# Altium footprint library UK_Library_PCB.PcbLib: 52 footprints (part 4 of 4)
Each footprint in its own frame and in the unit in brackets; x right, y up, seen from the top. Pads: shape width x height; smd on the part's side, far side on the other; paste and mask are expansions set on the pad; w line width, h text height; cw(c..) or ccw(c..) is an arc to the next point about the centre after c.
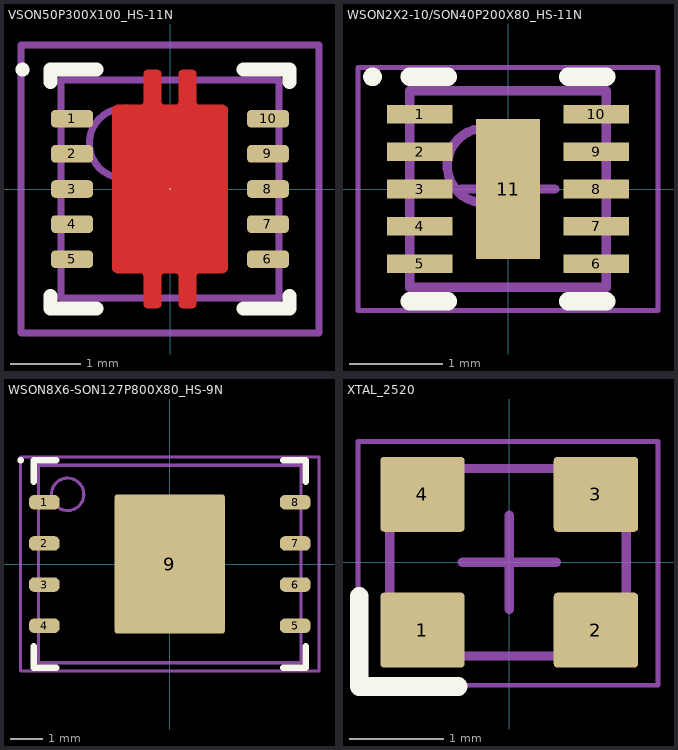
[diagram p3: the footprints below, top view; thin cyan lines are the x and y axes]

## VSON50P300X100_HS-11N [mm] "VSON, 10-Leads, Body 3,00x3,00mm, Pitch 0,50mm, Thermal Pad 2,40x1,49mm, IPC Medium Density"
height 1
pads (11):
  rrect50% 0.6x0.25 smd mask+0.05: 1(-1.395,1) 2(-1.395,0.5) 3(-1.395,0) 4(-1.395,-0.5) 5(-1.395,-1) 6(1.395,-1) 7(1.395,-0.5) 8(1.395,0) 9(1.395,0.5) 10(1.395,1)
  round 0.025 smd mask+0.05: 11(0,0)
Top Layer:
  region: -0.312,-1.7 -0.325,-1.7 -0.348,-1.69 -0.365,-1.673 -0.375,-1.65 -0.375,-1.637 -0.375,-1.25 -0.376,-1.24 -0.384,-1.222 -0.398,-1.208 -0.416,-1.2 -0.426,-1.199 -0.744,-1.199 -0.76,-1.199 -0.79,-1.187 -0.813,-1.164 -0.825,-1.134 -0.825,-1.117 -0.825,1.118 -0.825,1.134 -0.812,1.164 -0.789,1.187 -0.759,1.2 -0.742,1.2 -0.425,1.2 -0.415,1.201 -0.397,1.208 -0.383,1.222 -0.376,1.24 -0.375,1.25 -0.375,1.638 -0.375,1.65 -0.365,1.673 -0.348,1.69 -0.325,1.7 -0.312,1.7 -0.187,1.7 -0.175,1.7 -0.152,1.69 -0.135,1.673 -0.125,1.65 -0.125,1.638 -0.125,1.25 -0.124,1.24 -0.117,1.222 -0.103,1.208 -0.085,1.201 -0.075,1.2 0.075,1.2 0.085,1.201 0.103,1.208 0.117,1.222 0.124,1.24 0.125,1.25 0.125,1.638 0.125,1.65 0.135,1.673 0.152,1.69 0.175,1.7 0.188,1.7 0.313,1.7 0.325,1.7 0.348,1.69 0.365,1.673 0.375,1.65 0.375,1.638 0.375,1.25 0.376,1.24 0.383,1.222 0.397,1.208 0.415,1.201 0.425,1.2 0.743,1.2 0.759,1.2 0.789,1.187 0.812,1.164 0.825,1.134 0.825,1.118 0.825,-1.117 0.825,-1.134 0.812,-1.164 0.789,-1.187 0.759,-1.2 0.743,-1.2 0.425,-1.2 0.415,-1.201 0.397,-1.208 0.383,-1.222 0.376,-1.24 0.375,-1.25 0.375,-1.637 0.375,-1.65 0.365,-1.673 0.348,-1.69 0.325,-1.7 0.313,-1.7 0.188,-1.7 0.175,-1.7 0.152,-1.69 0.135,-1.673 0.125,-1.65 0.125,-1.637 0.125,-1.25 0.124,-1.24 0.117,-1.222 0.103,-1.208 0.085,-1.201 0.075,-1.2 -0.075,-1.2 -0.085,-1.201 -0.103,-1.208 -0.117,-1.222 -0.124,-1.24 -0.125,-1.25 -0.125,-1.637 -0.125,-1.65 -0.135,-1.673 -0.152,-1.69 -0.175,-1.7 -0.187,-1.7
Top Overlay:
  circle w0.1: c-2.1,1.7 r0.05
  lines w0.2: -1.7,-1.525 -1.7,-1.7 -1.045,-1.7 ; -1.7,1.525 -1.7,1.7 -1.045,1.7 ; 1.045,-1.7 1.7,-1.7 1.7,-1.525 ; 1.045,1.7 1.7,1.7 1.7,1.525
Top Component Center:
  lines w0.1: -0.5,0 0.5,0 ; 0,-0.5 0,0.5
Top Assembly:
  circle w0.1: c-0.65,0.65 r0.5
  lines w0.1: -1.55,-1.55 -1.55,1.55 1.55,1.55 1.55,-1.55 -1.55,-1.55
Top Designator:
  text ".Designator" at -7.632,-0.508 h1.52
Top Courtyard:
  lines w0.1: 2.105,-2.05 -2.121,-2.05 -2.121,2.05 2.105,2.05 ; 2.121,-2.05 2.121,2.05
3D body "VSON50P300X100_HS-11N.step": height 1, standoff 0, extent -1.551,-1.55 1.551,1.55

## WSON2X2-10/SON40P200X80_HS-11N [mm] "SON, 10-Leads, Body 2,00x2,00mm, Pitch 0,40mm, Thermal Pad 1,50x0,69mm, IPC Medium Density"
height 0.8
pads (11):
  rect 0.7x0.2 smd mask+0.05: 1(-0.945,0.8) 2(-0.945,0.4) 3(-0.945,0) 4(-0.945,-0.4) 5(-0.945,-0.8) 6(0.945,-0.8) 7(0.945,-0.4) 8(0.945,0) 9(0.945,0.4) 10(0.945,0.8)
  rect 0.69x1.5 smd mask+0.05: 11(0,0)
Top Overlay:
  circle w0.1: c-1.45,1.2 r0.05
  lines w0.2: -1.05,-1.2 -0.645,-1.2 ; -1.05,1.2 -0.645,1.2 ; 0.645,-1.2 1.05,-1.2 ; 0.645,1.2 1.05,1.2
Top Component Center:
  lines w0.1: -0.5,0 0.5,0 ; 0,-0.5 0,0.5
Top Assembly:
  circle w0.1: c-0.25,0.25 r0.4
  lines w0.1: -1.05,-1.05 1.05,-1.05 1.05,1.05 -1.05,1.05 -1.05,-1.05
Top Designator:
  text ".Designator" at -7.618,-0.508 h1.52
Top Courtyard:
  lines w0.05: -1.605,-1.3 1.605,-1.3 1.605,1.3 -1.605,1.3 -1.605,-1.3
3D body: height 0.8, standoff 0, extent -1.05,-1.05 1.05,1.05

## WSON8X6-SON127P800X80_HS-9N [mm] "SON, 8-Leads, Body 6,00x8,00mm, Pitch 1,27mm, Thermal Pad 4,30x3,40mm, IPC Medium Density"
height 0.8
pads (9):
  rrect75% 0.95x0.45 smd mask+0.07: 1(-3.87,1.905) 2(-3.87,0.635) 3(-3.87,-0.635) 4(-3.87,-1.905) 5(3.87,-1.905) 6(3.87,-0.635) 7(3.87,0.635) 8(3.87,1.905)
  rrect5% 3.4x4.3 smd paste-1.7 mask+0.07: 9(0,0)
Top Overlay:
  circle w0.1: c-4.6,3.2 r0.05
  lines w0.2: -4.2,-2.53 -4.2,-3.2 -3.495,-3.2 ; -4.2,2.53 -4.2,3.2 -3.495,3.2 ; 3.495,-3.2 4.2,-3.2 4.2,-2.53 ; 3.495,3.2 4.2,3.2 4.2,2.53
Top Paste:
  rectangle: 0.665,-2.045 1.595,-0.815
  rectangle: 0.665,-0.615 1.595,0.615
  rectangle: 0.665,0.815 1.595,2.045
  rectangle: -0.465,-2.045 0.465,-0.815
  rectangle: -0.465,-0.615 0.465,0.615
  rectangle: -0.465,0.815 0.465,2.045
  rectangle: -1.595,-2.045 -0.665,-0.815
  rectangle: -1.595,-0.615 -0.665,0.615
  rectangle: -1.595,0.815 -0.665,2.045
Top Component Center:
  lines w0.1: -0.5,0 0.5,0 ; 0,-0.5 0,0.5
Top Assembly:
  circle w0.1: c-3.15,2.15 r0.5
  lines w0.1: -4.05,-3.05 4.05,-3.05 4.05,3.05 -4.05,3.05 -4.05,-3.05
Top Designator:
  text ".Designator" at -7.64,-0.508 h1.52
Top Courtyard:
  lines w0.1: -4.605,-3.3 4.605,-3.3 4.605,3.3 -4.605,3.3 -4.605,-3.3
3D body "WSON8X6-SON127P800X80_HS-9N.step": height 0.8, standoff 0, extent -4.051,-3.05 4.051,3.05

## XTAL_2520 [mm]
pads (4):
  rrect10% 0.9x0.8 smd mask+0.05: 1(-0.925,-0.725) 2(0.925,-0.725) 3(0.925,0.725) 4(-0.925,0.725)
Top Overlay:
  lines w0.2: -1.6,-0.363 -1.6,-1.325 -0.544,-1.325
Top Component Center:
  lines w0.1: -0.5,0 0.5,0 ; 0,-0.5 0,0.5
Top Assembly:
  rectangle: -1.275,-1 -0.784,-0.583
  lines w0.1: -1.275,-1 -1.25,-1 1.25,-1 1.25,1 -1.275,1 -1.275,-1
Top Designator:
  text ".Designator" at -7.661,-0.564 h1.52
Top Courtyard:
  lines w0.05: -1.613,-1.313 1.587,-1.313 1.587,1.287 -1.613,1.287 -1.613,-1.313
3D body "XTAL-2520.step": height 0.8, standoff -0.03, extent -1.25,-1 1.25,1